# EAGLE library part 74*442 (library 74xx-eu)
4 bit tridirectional BUS DRIVER
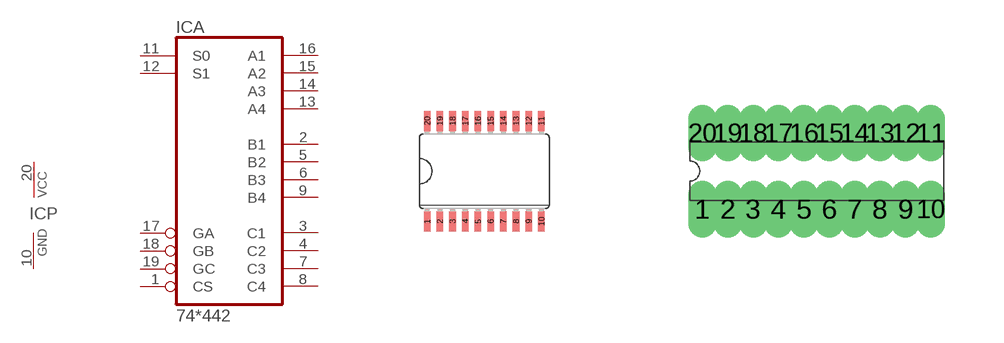
[diagram p214: symbol with the pads of SO20W; footprints SO20W, DIL20]

Designator prefix IC; gates A=74440 P=PWRN

## 74442J, 74LS442J  [SO20W]
1  A:CS  in
2  A:B1
3  A:C1
4  A:C2
5  A:B2
6  A:B3
7  A:C3
8  A:C4
9  A:B4
10  P:GND  pwr
11  A:S0  in
12  A:S1  in
13  A:A4
14  A:A3
15  A:A2
16  A:A1
17  A:GA  in
18  A:GB  in
19  A:GC  in
20  P:VCC  pwr

## 74442N, 74LS442N  [DIL20]
Pads as for SO20W

## Footprint SO20W (pad centres in mm)
Wide Small Outline package 300 mil
smd 0.165 x 0.508: 1 -1.429,-1.257; 2 -1.111,-1.257; 3 -0.794,-1.257; 4 -0.476,-1.257; 5 -0.159,-1.257; 6 0.159,-1.257; 7 0.476,-1.257; 8 0.794,-1.257; 9 1.111,-1.257; 10 1.429,-1.257; 11 1.429,1.257; 12 1.111,1.257; 13 0.794,1.257; 14 0.476,1.257; 15 0.159,1.257; 16 -0.159,1.257; 17 -0.476,1.257; 18 -0.794,1.257; 19 -1.111,1.257; 20 -1.429,1.257

## Footprint DIL20 (pad centres in mm)
Dual In Line Package
drill 0.203 long: 1 -2.857,-0.953; 2 -2.223,-0.953; 3 -1.587,-0.953; 4 -0.953,-0.953; 5 -0.318,-0.953; 6 0.318,-0.953; 7 0.953,-0.953; 8 1.587,-0.953; 9 2.223,-0.953; 10 2.857,-0.953; 11 2.857,0.953; 12 2.223,0.953; 13 1.587,0.953; 14 0.953,0.953; 15 0.318,0.953; 16 -0.318,0.953; 17 -0.953,0.953; 18 -1.587,0.953; 19 -2.223,0.953; 20 -2.857,0.953